# Altium schematic symbol library Standard.SchLib: 16 symbols
Pins are listed as number, name and electrical type; pins without a type are passive.

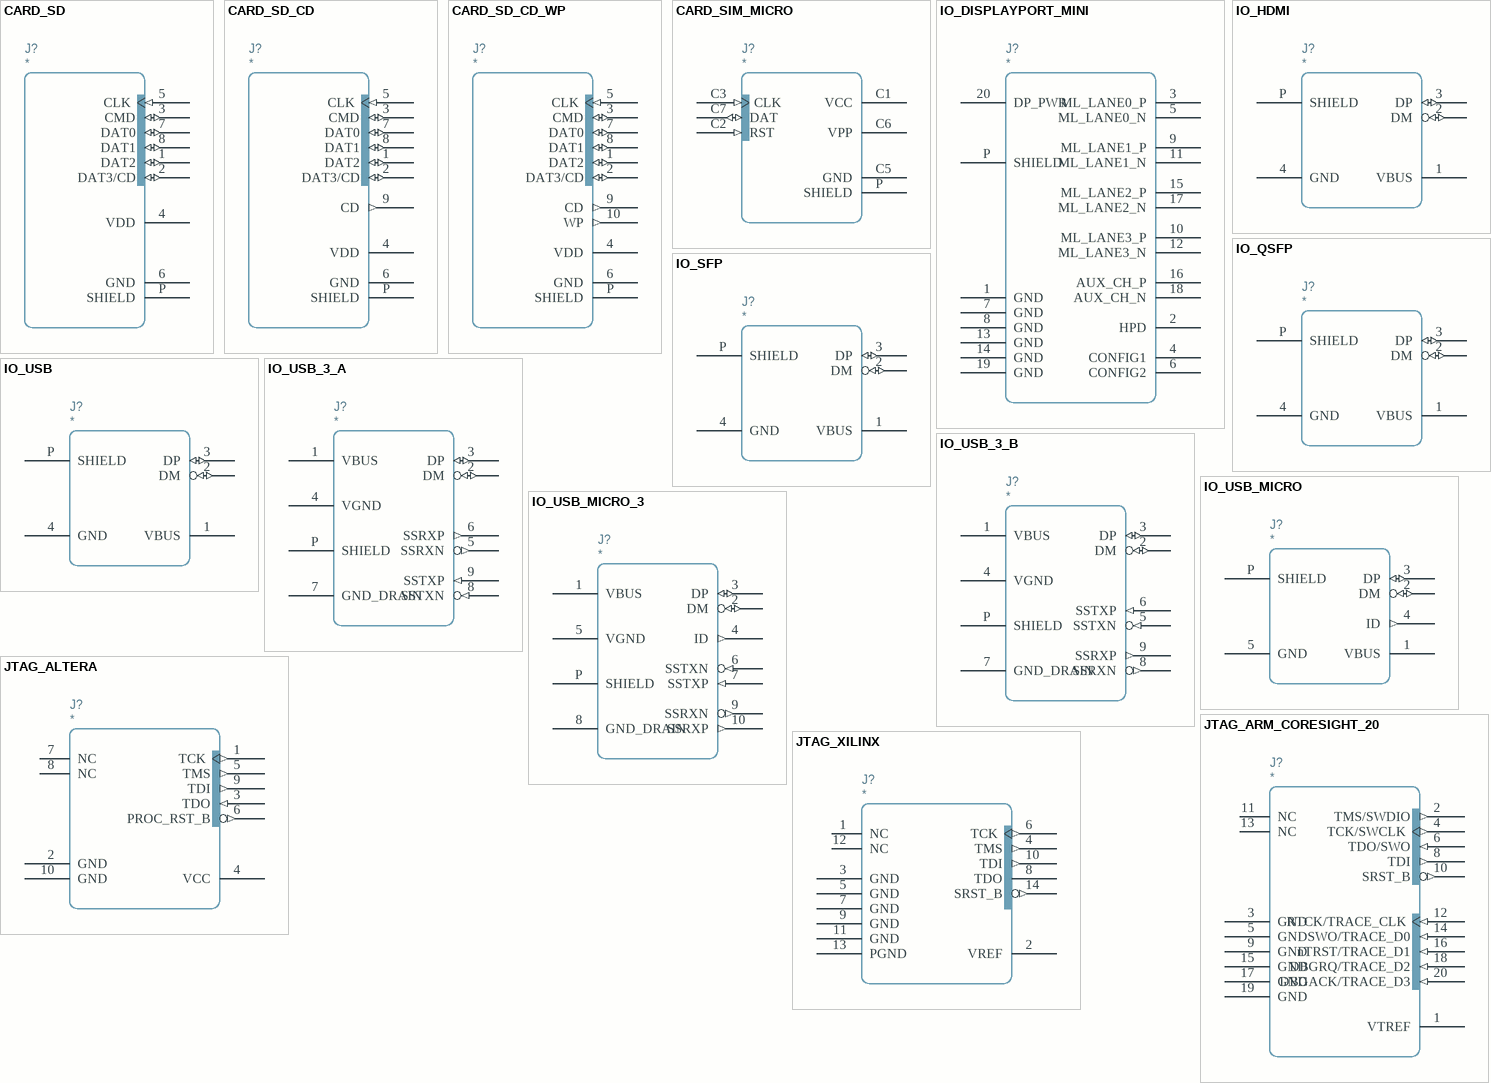
[diagram p0: symbols CARD_SD to JTAG_XILINX]

## CARD_SD
designator J?
pins: 1 DAT2 (io), 2 DAT3/CD (io), 3 CMD (io), 4 VDD, 5 CLK (in), 6 GND, 7 DAT0 (io), 8 DAT1 (io), P SHIELD

## CARD_SD_CD
designator J?
pins: 1 DAT2 (io), 2 DAT3/CD (io), 3 CMD (io), 4 VDD, 5 CLK (in), 6 GND, 7 DAT0 (io), 8 DAT1 (io), 9 CD (out), P SHIELD

## CARD_SD_CD_WP
designator J?
pins: 1 DAT2 (io), 2 DAT3/CD (io), 3 CMD (io), 4 VDD, 5 CLK (in), 6 GND, 7 DAT0 (io), 8 DAT1 (io), 9 CD (out), 10 WP (out), P SHIELD

## CARD_SIM_MICRO
designator J?
pins: C1 VCC, C2 RST (in), C3 CLK (in), C5 GND, C6 VPP, C7 DAT (io), P SHIELD

## IO_DISPLAYPORT_MINI
designator J?
pins: 1 GND, 2 HPD, 3 ML_LANE0_P, 4 CONFIG1, 5 ML_LANE0_N, 6 CONFIG2, 7 GND, 8 GND, 9 ML_LANE1_P, 10 ML_LANE3_P, 11 ML_LANE1_N, 12 ML_LANE3_N, 13 GND, 14 GND, 15 ML_LANE2_P, 16 AUX_CH_P, 17 ML_LANE2_N, 18 AUX_CH_N, 19 GND, 20 DP_PWR, P SHIELD

## IO_HDMI
designator J?
pins: 1 VBUS, 2 DM (io), 3 DP (io), 4 GND, P SHIELD

## IO_QSFP
designator J?
pins: 1 VBUS, 2 DM (io), 3 DP (io), 4 GND, P SHIELD

## IO_SFP
designator J?
pins: 1 VBUS, 2 DM (io), 3 DP (io), 4 GND, P SHIELD

## IO_USB
designator J?
pins: 1 VBUS, 2 DM (io), 3 DP (io), 4 GND, P SHIELD

## IO_USB_3_A
designator J?
pins: 1 VBUS, 2 DM (io), 3 DP (io), 4 VGND, 5 SSRXN (out), 6 SSRXP (out), 7 GND_DRAIN, 8 SSTXN (in), 9 SSTXP (in), P SHIELD

## IO_USB_3_B
designator J?
pins: 1 VBUS, 2 DM (io), 3 DP (io), 4 VGND, 5 SSTXN (in), 6 SSTXP (in), 7 GND_DRAIN, 8 SSRXN (out), 9 SSRXP (out), P SHIELD

## IO_USB_MICRO
designator J?
pins: 1 VBUS, 2 DM (io), 3 DP (io), 4 ID (out), 5 GND, P SHIELD

## IO_USB_MICRO_3
designator J?
pins: 1 VBUS, 2 DM (io), 3 DP (io), 4 ID (out), 5 VGND, 6 SSTXN (in), 7 SSTXP (in), 8 GND_DRAIN, 9 SSRXN (out), 10 SSRXP (out), P SHIELD

## JTAG_ALTERA
designator J?
pins: 1 TCK (out), 2 GND, 3 TDO (in), 4 VCC, 5 TMS (out), 6 PROC_RST_B (out), 7 NC, 8 NC, 9 TDI (out), 10 GND

## JTAG_ARM_CORESIGHT_20
designator J?
pins: 1 VTREF, 2 TMS/SWDIO (out), 3 GND, 4 TCK/SWCLK (out), 5 GND, 6 TDO/SWO (in), 8 TDI (out), 9 GND, 10 SRST_B (out), 11 NC, 12 RTCK/TRACE_CLK (in), 13 NC, 14 SWO/TRACE_D0 (in), 15 GND, 16 nTRST/TRACE_D1 (in), 17 GND, 18 DBGRQ/TRACE_D2 (in), 19 GND, 20 DBGACK/TRACE_D3 (in)

## JTAG_XILINX
designator J?
pins: 1 NC, 2 VREF, 3 GND, 4 TMS (out), 5 GND, 6 TCK (out), 7 GND, 8 TDO, 9 GND, 10 TDI (out), 11 GND, 12 NC, 13 PGND, 14 SRST_B (out)